# Altium schematic symbol library LED_8x8_RGB.Schlib: 1 symbol
Pins are listed as number, name and electrical type; pins without a type are passive.

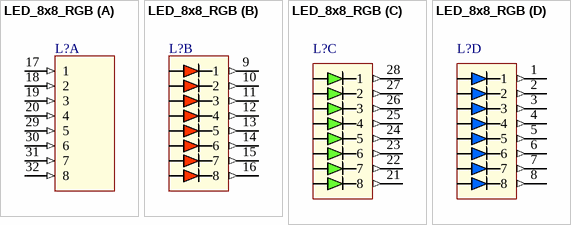
[diagram p0: symbol LED_8x8_RGB]

## LED_8x8_RGB
designator L?, comment 8x8 LED RGB  (value not drawn)
Наименование: 8x8 LED RGB matrix; Назначение: 8x8 LED RGB matrix
footprint LED 8x8 (led-matrix rgb)
part A pins: 17 1 (in), 18 2 (in), 19 3 (in), 20 4 (in), 29 5 (in), 30 6 (in), 31 7 (in), 32 8 (in)
part B pins: 9 1 (out), 10 2 (out), 11 3 (out), 12 4 (out), 13 5 (out), 14 6 (out), 15 7 (out), 16 8 (out)
part C pins: 21 8 (out), 22 7 (out), 23 6 (out), 24 5 (out), 25 4 (out), 26 3 (out), 27 2 (out), 28 1 (out)
part D pins: 1 (out), 2 (out), 3 (out), 4 (out), 5 (out), 6 (out), 7 (out), 8 (out)